# EAGLE library part 623X1421021 (library Board-to-Board (rev18a))
WR-PHD 1.27mm Dual SMT Socket Header H=4.50mm, 14 Pins=>Code : Con_BTB_SHD_1.27_2_623x1421021(Packaging:x = 0: Tube x = 3: Tape & Reel with Cap) <http://katalog.we-online.de/media/thumbs2/eican/thb_Con_BTB_SHD_1.27_2_6230xx21021_pf2.jpg> 6230xx21021 Details see: http://katalog.we-online.de/en/em/PHD_1_27_SMT_DUAL_SOCKET_HEADER_6230XX21021 6233xx21021 Details see: http://katalog.we-online.de/en/em/PHD_1_27_SMT_DUAL_SOCKET_HEADER_REEL_6233XX21021 2014 (C) Würth Elektronik
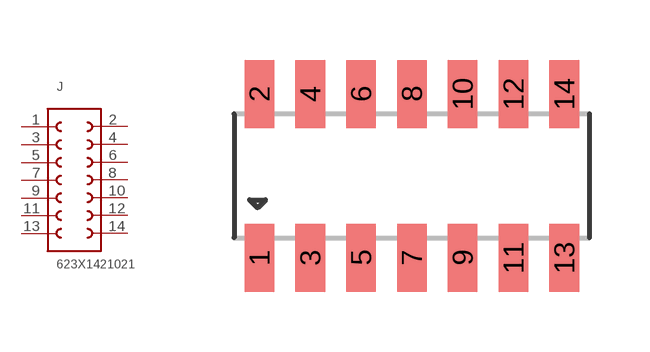
[diagram p296: symbol with the pads of 623X1421021; footprint 623X1421021]

Designator prefix J

## 623X1421021  [623X1421021]
1  1  pas
2  14  pas
3  2  pas
4  13  pas
5  3  pas
6  12  pas
7  4  pas
8  11  pas
9  5  pas
10  10  pas
11  6  pas
12  9  pas
13  7  pas
14  8  pas

## Footprint 623X1421021 (pad centres in mm)
WR-PHD 1.27mm Dual SMT Socket Header H=4.50mm, 14 Pins
smd 0.74 x 1.7: 1 -3.81,-2.05; 2 -3.81,2.05; 3 -2.54,-2.05; 4 -2.54,2.05; 5 -1.27,-2.05; 6 -1.27,2.05; 7 0,-2.05; 8 0,2.05; 9 1.27,-2.05; 10 1.27,2.05; 11 2.54,-2.05; 12 2.54,2.05; 13 3.81,-2.05; 14 3.81,2.05